# EAGLE library part 564-0X00-XXX (library led)
LED Circuit Board Indicator, Tri-LevelE Dialight
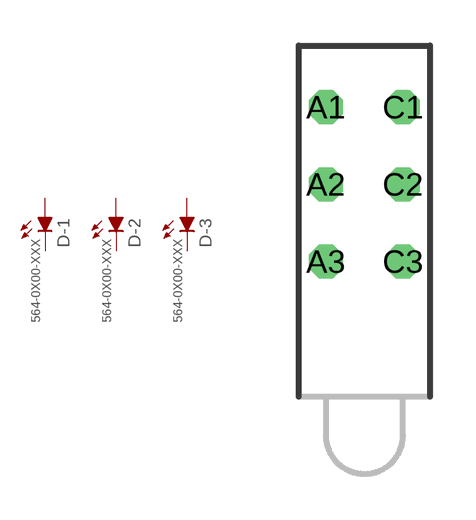
[diagram p9: symbol with the pads of 564-0X00-XXX; footprint 564-0X00-XXX]

Designator prefix D; gates -1=LED -2=LED -3=LED

## 564-0X00-XXX  [564-0X00-XXX]
A1  -1:A  pas
A2  -2:A  pas
A3  -3:A  pas
C1  -1:C  pas
C2  -2:C  pas
C3  -3:C  pas

## Footprint 564-0X00-XXX (pad centres in mm)
3MM Tri-Level LED Dialight
drill 0.61 octagon: A1 -1.27,5.08; A2 -1.27,2.54; A3 -1.27,0; C1 1.27,5.08; C2 1.27,2.54; C3 1.27,0